# Altium footprint library Crystal.PcbLib: 1 footprints
Each footprint in its own frame and in the unit in brackets; x right, y up, seen from the top. Pads: shape width x height; smd on the part's side, far side on the other; paste and mask are expansions set on the pad; w line width, h text height; cw(c..) or ccw(c..) is an arc to the next point about the centre after c.
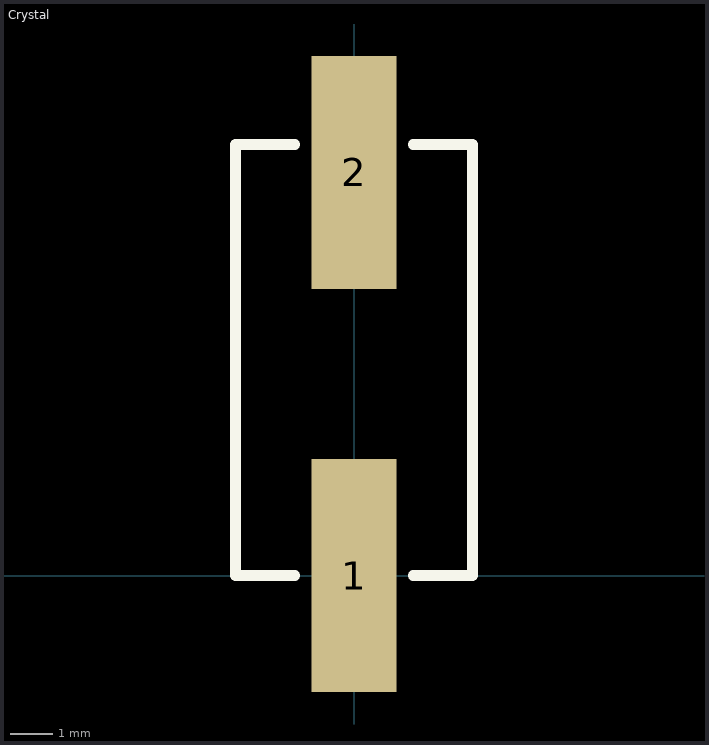
[diagram p0: the footprint, top view; thin cyan lines are the x and y axes]

## Crystal [mm]
height 4.05
pads (2):
  rect 2x5.5 smd: 1(0,0) 2(0,9.5)
Top Overlay:
  lines w0.254: -1.397,0 -2.794,0 -2.794,10.16 -1.397,10.16 ; 1.397,0 2.794,0 2.794,10.16 1.397,10.16
3D body: height 0.75, standoff 0, extent -2.921,-0.254 2.921,10.16
3D body: height 3.8, standoff 0, extent -1.764,0.08 1.727,3.578
3D body: height 3.8, standoff 0, extent -1.762,6.305 1.725,9.798
3D body: height 3.8, standoff 0, extent -1.778,1.829 1.727,8.128